# Altium footprint library Fe845_V20_核心板AD封装.PcbLib: 1 footprints
Each footprint in its own frame and in the unit in brackets; x right, y up, seen from the top. Pads: shape width x height; smd on the part's side, far side on the other; paste and mask are expansions set on the pad; w line width, h text height; cw(c..) or ccw(c..) is an arc to the next point about the centre after c.
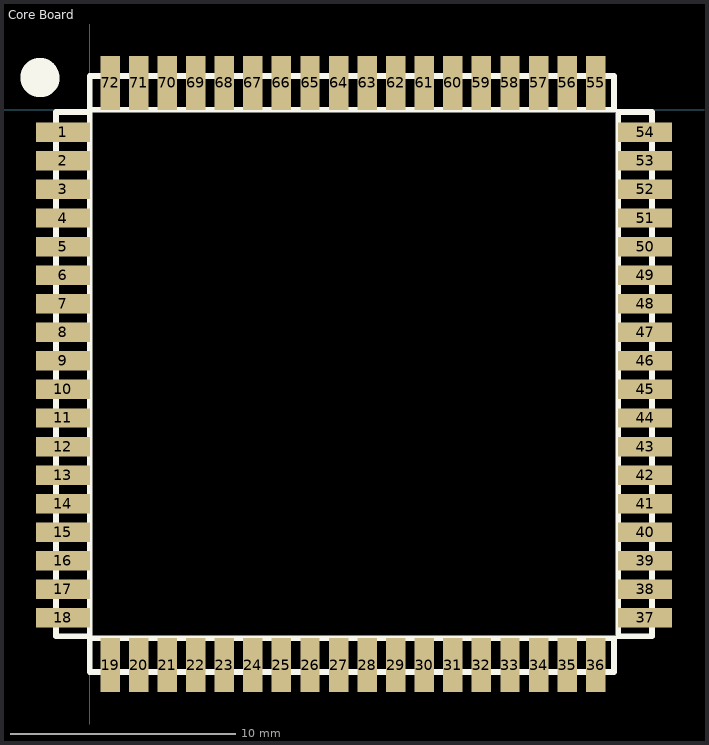
[diagram p0: the footprint, top view; thin cyan lines are the x and y axes]

## Core Board [mm]
pads (72):
  rect 2.4x0.864 smd: 1(-1.2,-1.005) 2(-1.2,-2.275) 3(-1.2,-3.545) 4(-1.2,-4.815) 5(-1.2,-6.085) 6(-1.2,-7.355) 7(-1.2,-8.625) 8(-1.2,-9.895) 9(-1.2,-11.165) 10(-1.2,-12.435) 11(-1.2,-13.705) 12(-1.2,-14.975) 13(-1.2,-16.245) 14(-1.2,-17.515) 15(-1.2,-18.785) 16(-1.2,-20.055) 17(-1.2,-21.325) 18(-1.2,-22.595) 37(24.69,-22.595) 38(24.69,-21.325) 39(24.69,-20.055) 40(24.69,-18.785) 41(24.69,-17.515) 42(24.69,-16.245) 43(24.69,-14.975) 44(24.69,-13.705) 45(24.69,-12.435) 46(24.69,-11.165) 47(24.69,-9.895) 48(24.69,-8.625) 49(24.69,-7.355) 50(24.69,-6.085) 51(24.69,-4.815) 52(24.69,-3.545) 53(24.69,-2.275) 54(24.69,-1.005)
  rect 0.864x2.4 smd: 19(0.9,-24.695) 20(2.17,-24.695) 21(3.44,-24.695) 22(4.71,-24.695) 23(5.98,-24.695) 24(7.25,-24.695) 25(8.52,-24.695) 26(9.79,-24.695) 27(11.06,-24.695) 28(12.33,-24.695) 29(13.6,-24.695) 30(14.87,-24.695) 31(16.14,-24.695) 32(17.41,-24.695) 33(18.68,-24.695) 34(19.95,-24.695) 35(21.22,-24.695) 36(22.49,-24.695) 55(22.49,1.195) 56(21.22,1.195) 57(19.95,1.195) 58(18.68,1.195) 59(17.41,1.195) 60(16.14,1.195) 61(14.87,1.195) 62(13.6,1.195) 63(12.33,1.195) 64(11.06,1.195) 65(9.79,1.195) 66(8.52,1.195) 67(7.25,1.195) 68(5.98,1.195) 69(4.71,1.195) 70(3.44,1.195) 71(2.17,1.195) 72(0.9,1.195)
Top Overlay:
  lines w0.254: -1.505,-23.405 -1.505,-0.105 -0.005,-0.105 -0.005,-23.405 -1.505,-23.405 ; 0,-25 0,-23.5 23.3,-23.5 23.3,-25 0,-25 ; 0,0 0,1.5 23.3,1.5 23.3,0 0,0 ; 23.495,-23.405 23.495,-0.105 24.995,-0.105 24.995,-23.405 23.495,-23.405
  lines w1.5: -2.149,1.536 ccw(c-2.215,1.43) -2.09,1.43